# Altium schematic symbol library BRC2016T330K.SchLib: 1 symbol
Pins are listed as number, name and electrical type; pins without a type are passive.

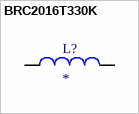
[diagram p0: symbol BRC2016T330K]

## BRC2016T330K
designator L?
INDUCTOR, 33UH, 270mA, 10%, 13MHZ, SMD; Product Range:TAIYO YUDEN - BR Series 2016 (0806) Wirewound Chip Power Inductors; Inductance:33ÂµH; Inductance Tolerance:Â± 10%; DC Resistance Max:1.7ohm; DC Current Rating:270mA ;RoHS Compliant: Yes; MP: BRC2016T330K; SnapEDA_Link: https://www.snapeda.com/parts/BRC2016T330K/Taiyo+Yuden/view-part/?ref=snap; Package: 2016 Taiyo Yuden; Value: *; MF: Taiyo Yuden; Check_prices: https://www.snapeda.com/parts/BRC2016T330K/Taiyo+Yuden/view-part/?ref=eda
footprint INDC2016X180N
pins: 1, 2